# EAGLE library part STBC15QTR (library STBC15QTR)
Battery Management POWER MANAGEMENT Source: Datasheet <https://www.st.com/resource/en/datasheet/stbc15.pdf>
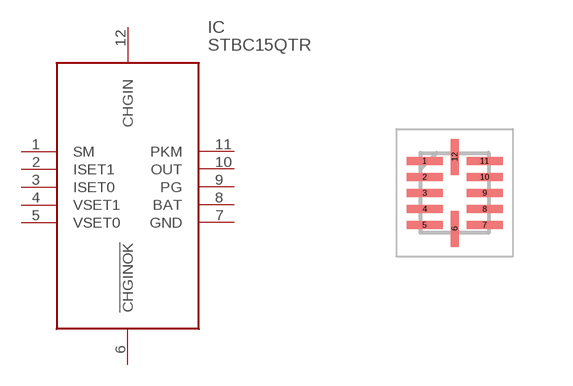
[diagram p0: symbol with the pads of QFN40P170X200X55-12N; footprint QFN40P170X200X55-12N]

Designator prefix IC

## STBC15QTR (Description: Battery Management POWER MANAGEMENT; Height: 0.55mm; Manufacturer_Name: STMicroelectronics; Manufacturer_Part_Number: STBC15QTR; Mouser_Part_Number: 511-STBC15QTR; Mouser_Price-Stock: https://www.mouser.com/Search/Refine.aspx?Keyword=511-STBC15QTR)  [QFN40P170X200X55-12N]
1  SM
2  ISET1
3  ISET0
4  VSET1
5  VSET0
6  !CHGINOK
7  GND
8  BAT
9  PG
10  OUT
11  PKM
12  CHGIN

## Footprint QFN40P170X200X55-12N (pad centres in mm)
STBC15QTR
smd 0.9 x 0.2: 1 -0.75,0.8; 2 -0.75,0.4; 3 -0.75,0; 4 -0.75,-0.4; 5 -0.75,-0.8; 7 0.75,-0.8; 8 0.75,-0.4; 9 0.75,0; 10 0.75,0.4; 11 0.75,0.8
smd 0.2 x 0.9: 6 0,-0.9; 12 0,0.9